# Altium integrated library Linear Technology Power Management Power-Over-Ethernet (PoE) Interface Controllers.IntLib: 174 symbols (part 8 of 16)
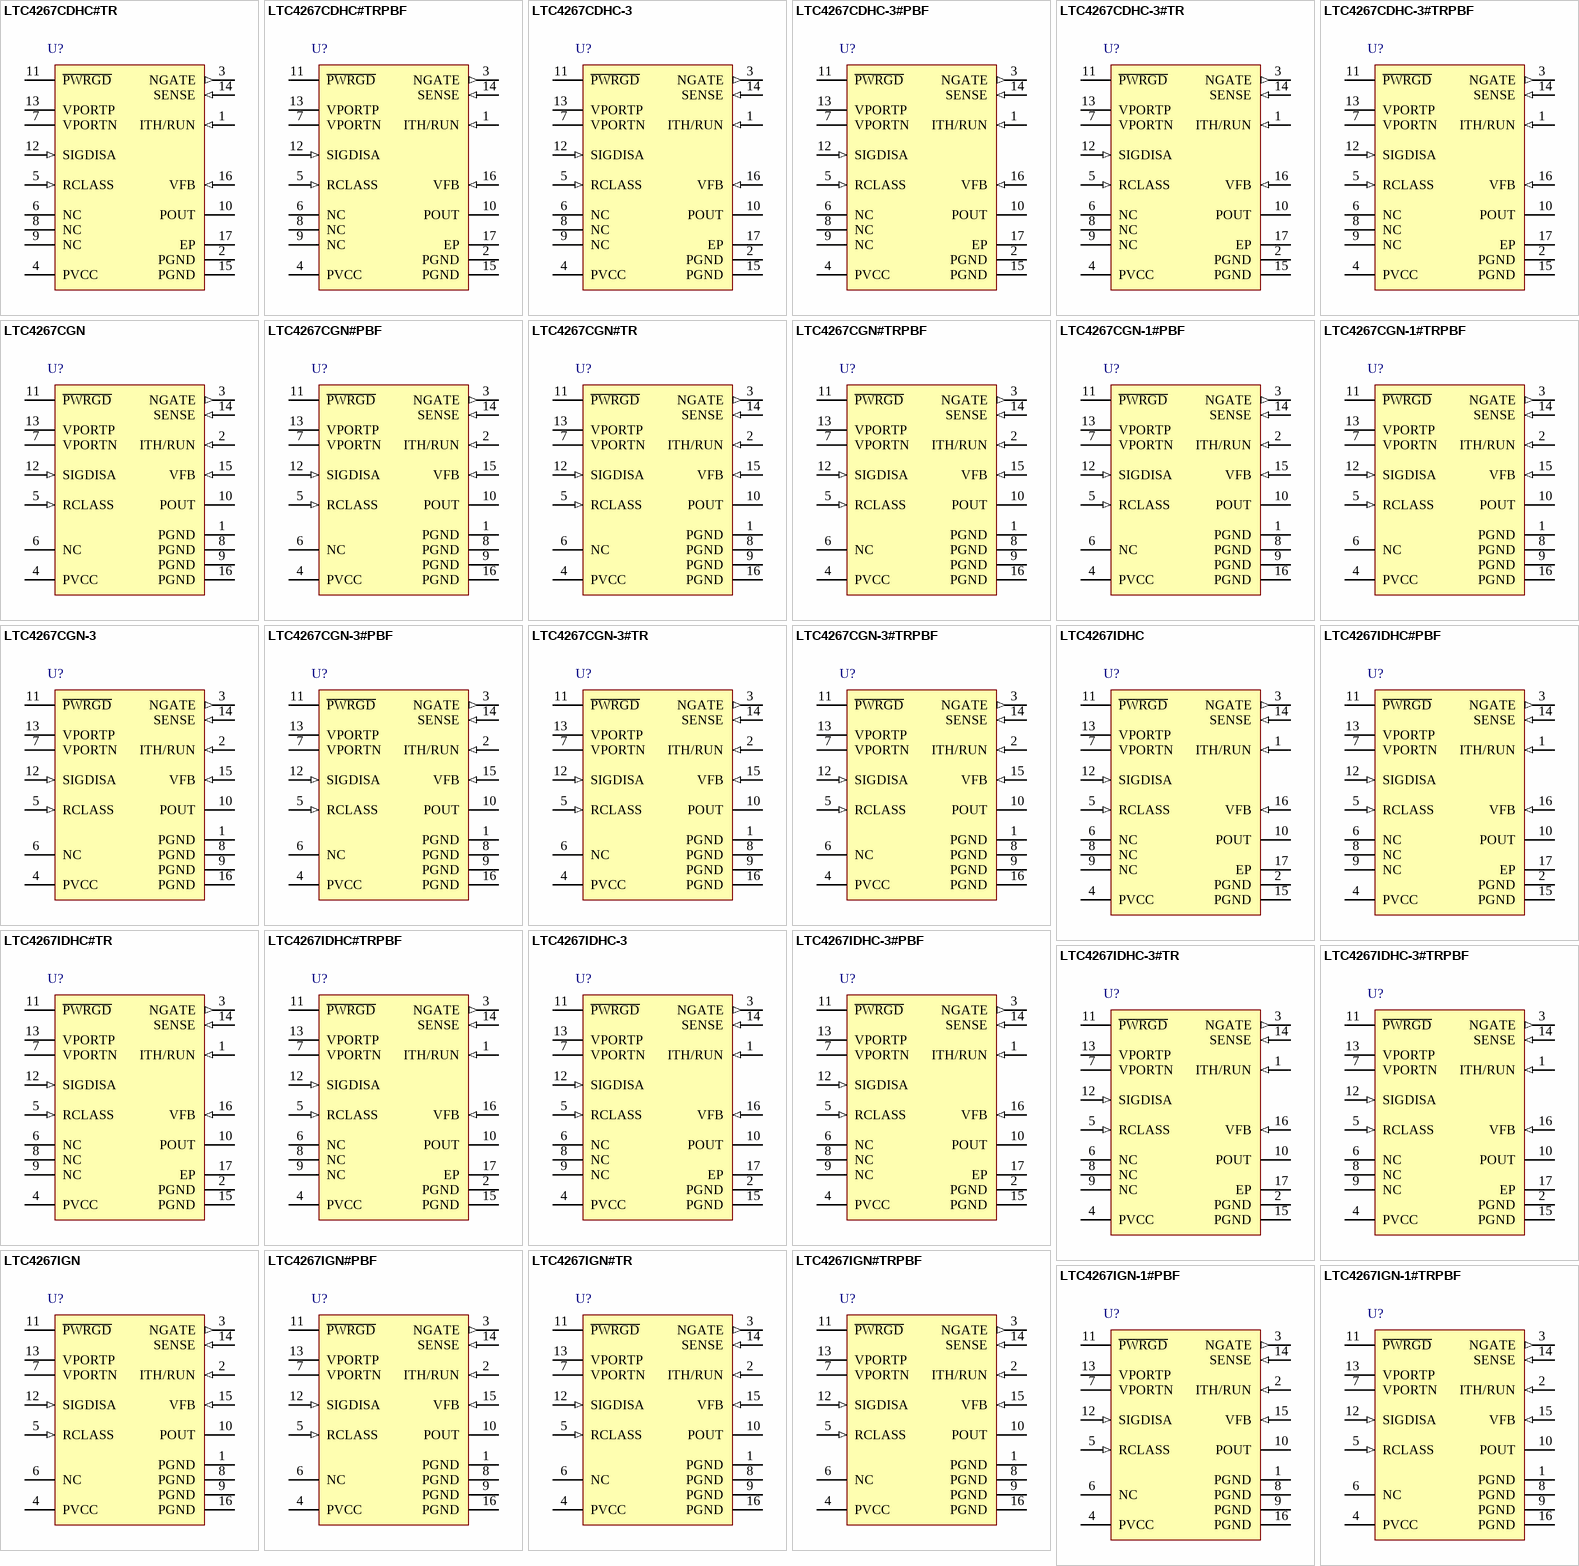
[diagram p15: symbols LTC4267CDHC#TR to LTC4267IGN-1#TRPBF]

## LTC4267CDHC-3
designator U?
Power Over Ethernet IEEE 802.3af PD Interface with Integrated Switching Regulator, 16-pin SON (DHC-16), 0 to 70 degC; Manufacturer: Linear Technology; PartNumber: LTC4267CDHC-3; Channels(#): 1; Extended Temp: C, I; I2C Interface: yes; Max Power(W): 13; DatasheetVersion: Rev. A; PackageVersion: Jun-10; PackageReference: DHC-16; PackageDescription: 16-Pin Plastic DFN, Body 5 x 3 mm, Pitch 0.5 mm; PoE Type: 1; PSE/PD: PD; RoHS: FALSE; Mounting Technology: Surface Mount; Code_JEDEC: MO-229; ComponentLink1Description: Manufacturer URL; ComponentLink1URL: http://www.linear.com/; ComponentLink2Description: Datasheet; ComponentLink2URL: http://cds.linear.com/docs/en/datasheet/42673fa.pdf; ComponentLink3Description: Package Specification; ComponentLink3URL: http://cds.linear.com/docs/en/packaging/DFN_16_05-08-1706.pdf
footprint LT-DHC-16_V (SON, 16-Leads, Body 5x3mm, Pitch 0.5mm, Thermal Pad 4.4X1.65mm)
pins: 1 ITH/RUN (in) "Current Threshold/Run Input. This  pin performs two functions. It serves as the switching  regulator error amplifier compensation point as well as  the run/shutdown control input. Nominal voltage range is  0.7V to 1.9V. (See Datasheet)", 2 PGND (power) "Switching Regulator  Negative Supply. This pin is the negative supply rail for the  switching regulator controller and must be tied to POUT.", 3 NGATE (out) "Gate Driver Output. This pin drives the  regulator's external N-Channel MOSFET and swings from PGND to PVCC.", 4 PVCC (power) "Switching Regulator Positive Supply. This  pin is the positive supply rail for the switching regulator  and must be closely decoupled to PGND.", 5 RCLASS (in) "Class Select Input. Used to set the current  value the PD maintains during classification. Connect a  resistor between RCLASS and VPORTN (see Table 2).", 6 NC "No Internal Connection.", 7 VPORTN (power) "Negative Power Input. Tie to the -48V input port through the input diodes.", 8 NC "No Internal Connection.", 9 NC "No Internal Connection.", 10 POUT (hiz) "Power Output. Supplies -48V to the switching regulator PGND pin and any additional PD loads through an internal power MOSFET that limits input current. POUT is high impedance until the voltage reaches the turn-on UVLO (See Datasheet)", 11 ~{PWRGD} (hiz) "Power Good Output, Open-Drain.  Indicates that the PD MOSFET is on and the switching  regulator can start operation. Low impedance indicates  power is good. P\W\R\G\D\ is high impedance during detection, classification and (See Datasheet)", 12 SIGDISA (in) "Signature Disable Input. SIGDISA allows the PD to present an invalid signature resistance and all functions of the LTC4267-3. If unused, tie SIGDISA to  VPORTN. remain inactive. Connecting SIGDISA to VPORTP lowers  the (See Datasheet)", 13 VPORTP (power) "Positive Power Input. Tie to the input port power return through the input diodes", 14 SENSE (in) "Current Sense. This pin performs two  functions. It monitors the regulator switch current by reading the voltage across an external sense resistor. It also  injects a current ramp that develops a slope compensation  voltage (See Datasheet)", 15 PGND (power) "Switching Regulator  Negative Supply. This pin is the negative supply rail for the  switching regulator controller and must be tied to POUT.", 16 VFB (in) "Feedback Input. Receives the feedback  voltage from the external resistor divider across the output", 17 EP (power) "Ground. The Exposed Pad  must be soldered to an electrically isolated PCB heat sink."

## LTC4267CDHC-3#PBF
designator U?
Power Over Ethernet IEEE 802.3af PD Interface with Integrated Switching Regulator, 16-pin SON (DHC-16), 0 to 70 degC, Pb-Free; Manufacturer: Linear Technology; PartNumber: LTC4267CDHC-3#PBF; Channels(#): 1; Extended Temp: C, I; I2C Interface: yes; Max Power(W): 13; DatasheetVersion: Rev. A; PackageVersion: Jun-10; PackageReference: DHC-16; PackageDescription: 16-Pin Plastic DFN, Body 5 x 3 mm, Pitch 0.5 mm; Supplier 1: Digi-Key; Supplier Part Number 1: LTC4267CDHC-3#PBF-ND; Supplier 2: Farnell; Supplier Part Number 2: 1432772; Supplier 3: Newark; Supplier Part Number 3: 56M9189; PoE Type: 1; PSE/PD: PD; RoHS: TRUE; Mounting Technology: Surface Mount; Code_JEDEC: MO-229; ComponentLink1Description: Manufacturer URL; ComponentLink1URL: http://www.linear.com/; ComponentLink2Description: Datasheet; ComponentLink2URL: http://cds.linear.com/docs/en/datasheet/42673fa.pdf; ComponentLink3Description: Package Specification; ComponentLink3URL: http://cds.linear.com/docs/en/packaging/DFN_16_05-08-1706.pdf
footprint LT-DHC-16_V (SON, 16-Leads, Body 5x3mm, Pitch 0.5mm, Thermal Pad 4.4X1.65mm)
pins: 1 ITH/RUN (in) "Current Threshold/Run Input. This  pin performs two functions. It serves as the switching  regulator error amplifier compensation point as well as  the run/shutdown control input. Nominal voltage range is  0.7V to 1.9V. (See Datasheet)", 2 PGND (power) "Switching Regulator  Negative Supply. This pin is the negative supply rail for the  switching regulator controller and must be tied to POUT.", 3 NGATE (out) "Gate Driver Output. This pin drives the  regulator's external N-Channel MOSFET and swings from PGND to PVCC.", 4 PVCC (power) "Switching Regulator Positive Supply. This  pin is the positive supply rail for the switching regulator  and must be closely decoupled to PGND.", 5 RCLASS (in) "Class Select Input. Used to set the current  value the PD maintains during classification. Connect a  resistor between RCLASS and VPORTN (see Table 2).", 6 NC "No Internal Connection.", 7 VPORTN (power) "Negative Power Input. Tie to the -48V input port through the input diodes.", 8 NC "No Internal Connection.", 9 NC "No Internal Connection.", 10 POUT (hiz) "Power Output. Supplies -48V to the switching regulator PGND pin and any additional PD loads through an internal power MOSFET that limits input current. POUT is high impedance until the voltage reaches the turn-on UVLO (See Datasheet)", 11 ~{PWRGD} (hiz) "Power Good Output, Open-Drain.  Indicates that the PD MOSFET is on and the switching  regulator can start operation. Low impedance indicates  power is good. P\W\R\G\D\ is high impedance during detection, classification and (See Datasheet)", 12 SIGDISA (in) "Signature Disable Input. SIGDISA allows the PD to present an invalid signature resistance and all functions of the LTC4267-3. If unused, tie SIGDISA to  VPORTN. remain inactive. Connecting SIGDISA to VPORTP lowers  the (See Datasheet)", 13 VPORTP (power) "Positive Power Input. Tie to the input port power return through the input diodes", 14 SENSE (in) "Current Sense. This pin performs two  functions. It monitors the regulator switch current by reading the voltage across an external sense resistor. It also  injects a current ramp that develops a slope compensation  voltage (See Datasheet)", 15 PGND (power) "Switching Regulator  Negative Supply. This pin is the negative supply rail for the  switching regulator controller and must be tied to POUT.", 16 VFB (in) "Feedback Input. Receives the feedback  voltage from the external resistor divider across the output", 17 EP (power) "Ground. The Exposed Pad  must be soldered to an electrically isolated PCB heat sink."

## LTC4267CDHC-3#TR
designator U?
Power Over Ethernet IEEE 802.3af PD Interface with Integrated Switching Regulator, 16-pin SON (DHC-16), 0 to 70 degC, Tape and Reel; Manufacturer: Linear Technology; PartNumber: LTC4267CDHC-3#TR; Channels(#): 1; Extended Temp: C, I; I2C Interface: yes; Max Power(W): 13; DatasheetVersion: Rev. A; PackageVersion: Jun-10; PackageReference: DHC-16; PackageDescription: 16-Pin Plastic DFN, Body 5 x 3 mm, Pitch 0.5 mm; Packing: Tape and Reel; PoE Type: 1; PSE/PD: PD; RoHS: FALSE; Mounting Technology: Surface Mount; Code_JEDEC: MO-229; ComponentLink1Description: Manufacturer URL; ComponentLink1URL: http://www.linear.com/; ComponentLink2Description: Datasheet; ComponentLink2URL: http://cds.linear.com/docs/en/datasheet/42673fa.pdf; ComponentLink3Description: Package Specification; ComponentLink3URL: http://cds.linear.com/docs/en/packaging/DFN_16_05-08-1706.pdf
footprint LT-DHC-16_V (SON, 16-Leads, Body 5x3mm, Pitch 0.5mm, Thermal Pad 4.4X1.65mm)
pins: 1 ITH/RUN (in) "Current Threshold/Run Input. This  pin performs two functions. It serves as the switching  regulator error amplifier compensation point as well as  the run/shutdown control input. Nominal voltage range is  0.7V to 1.9V. (See Datasheet)", 2 PGND (power) "Switching Regulator  Negative Supply. This pin is the negative supply rail for the  switching regulator controller and must be tied to POUT.", 3 NGATE (out) "Gate Driver Output. This pin drives the  regulator's external N-Channel MOSFET and swings from PGND to PVCC.", 4 PVCC (power) "Switching Regulator Positive Supply. This  pin is the positive supply rail for the switching regulator  and must be closely decoupled to PGND.", 5 RCLASS (in) "Class Select Input. Used to set the current  value the PD maintains during classification. Connect a  resistor between RCLASS and VPORTN (see Table 2).", 6 NC "No Internal Connection.", 7 VPORTN (power) "Negative Power Input. Tie to the -48V input port through the input diodes.", 8 NC "No Internal Connection.", 9 NC "No Internal Connection.", 10 POUT (hiz) "Power Output. Supplies -48V to the switching regulator PGND pin and any additional PD loads through an internal power MOSFET that limits input current. POUT is high impedance until the voltage reaches the turn-on UVLO (See Datasheet)", 11 ~{PWRGD} (hiz) "Power Good Output, Open-Drain.  Indicates that the PD MOSFET is on and the switching  regulator can start operation. Low impedance indicates  power is good. P\W\R\G\D\ is high impedance during detection, classification and (See Datasheet)", 12 SIGDISA (in) "Signature Disable Input. SIGDISA allows the PD to present an invalid signature resistance and all functions of the LTC4267-3. If unused, tie SIGDISA to  VPORTN. remain inactive. Connecting SIGDISA to VPORTP lowers  the (See Datasheet)", 13 VPORTP (power) "Positive Power Input. Tie to the input port power return through the input diodes", 14 SENSE (in) "Current Sense. This pin performs two  functions. It monitors the regulator switch current by reading the voltage across an external sense resistor. It also  injects a current ramp that develops a slope compensation  voltage (See Datasheet)", 15 PGND (power) "Switching Regulator  Negative Supply. This pin is the negative supply rail for the  switching regulator controller and must be tied to POUT.", 16 VFB (in) "Feedback Input. Receives the feedback  voltage from the external resistor divider across the output", 17 EP (power) "Ground. The Exposed Pad  must be soldered to an electrically isolated PCB heat sink."

## LTC4267CDHC-3#TRPBF
designator U?
Power Over Ethernet IEEE 802.3af PD Interface with Integrated Switching Regulator, 16-pin SON (DHC-16), 0 to 70 degC, Pb-Free, Tape and Reel; Manufacturer: Linear Technology; PartNumber: LTC4267CDHC-3#TRPBF; Channels(#): 1; Extended Temp: C, I; I2C Interface: yes; Max Power(W): 13; DatasheetVersion: Rev. A; PackageVersion: Jun-10; PackageReference: DHC-16; PackageDescription: 16-Pin Plastic DFN, Body 5 x 3 mm, Pitch 0.5 mm; Supplier 1: Digi-Key; Supplier Part Number 1: LTC4267CDHC-3#TRPBF-ND; Packing: Tape and Reel; PoE Type: 1; PSE/PD: PD; RoHS: TRUE; Mounting Technology: Surface Mount; Code_JEDEC: MO-229; ComponentLink1Description: Manufacturer URL; ComponentLink1URL: http://www.linear.com/; ComponentLink2Description: Datasheet; ComponentLink2URL: http://cds.linear.com/docs/en/datasheet/42673fa.pdf; ComponentLink3Description: Package Specification; ComponentLink3URL: http://cds.linear.com/docs/en/packaging/DFN_16_05-08-1706.pdf
footprint LT-DHC-16_V (SON, 16-Leads, Body 5x3mm, Pitch 0.5mm, Thermal Pad 4.4X1.65mm)
pins: 1 ITH/RUN (in) "Current Threshold/Run Input. This  pin performs two functions. It serves as the switching  regulator error amplifier compensation point as well as  the run/shutdown control input. Nominal voltage range is  0.7V to 1.9V. (See Datasheet)", 2 PGND (power) "Switching Regulator  Negative Supply. This pin is the negative supply rail for the  switching regulator controller and must be tied to POUT.", 3 NGATE (out) "Gate Driver Output. This pin drives the  regulator's external N-Channel MOSFET and swings from PGND to PVCC.", 4 PVCC (power) "Switching Regulator Positive Supply. This  pin is the positive supply rail for the switching regulator  and must be closely decoupled to PGND.", 5 RCLASS (in) "Class Select Input. Used to set the current  value the PD maintains during classification. Connect a  resistor between RCLASS and VPORTN (see Table 2).", 6 NC "No Internal Connection.", 7 VPORTN (power) "Negative Power Input. Tie to the -48V input port through the input diodes.", 8 NC "No Internal Connection.", 9 NC "No Internal Connection.", 10 POUT (hiz) "Power Output. Supplies -48V to the switching regulator PGND pin and any additional PD loads through an internal power MOSFET that limits input current. POUT is high impedance until the voltage reaches the turn-on UVLO (See Datasheet)", 11 ~{PWRGD} (hiz) "Power Good Output, Open-Drain.  Indicates that the PD MOSFET is on and the switching  regulator can start operation. Low impedance indicates  power is good. P\W\R\G\D\ is high impedance during detection, classification and (See Datasheet)", 12 SIGDISA (in) "Signature Disable Input. SIGDISA allows the PD to present an invalid signature resistance and all functions of the LTC4267-3. If unused, tie SIGDISA to  VPORTN. remain inactive. Connecting SIGDISA to VPORTP lowers  the (See Datasheet)", 13 VPORTP (power) "Positive Power Input. Tie to the input port power return through the input diodes", 14 SENSE (in) "Current Sense. This pin performs two  functions. It monitors the regulator switch current by reading the voltage across an external sense resistor. It also  injects a current ramp that develops a slope compensation  voltage (See Datasheet)", 15 PGND (power) "Switching Regulator  Negative Supply. This pin is the negative supply rail for the  switching regulator controller and must be tied to POUT.", 16 VFB (in) "Feedback Input. Receives the feedback  voltage from the external resistor divider across the output", 17 EP (power) "Ground. The Exposed Pad  must be soldered to an electrically isolated PCB heat sink."

## LTC4267CGN
designator U?
Power Over Ethernet IEEE 802.3af PD Interface with Integrated Switching Regulator, 16-pin SOP (GN-16), 0 to 70 degC; Manufacturer: Linear Technology; PartNumber: LTC4267CGN; Channels(#): 1; Extended Temp: C, I; I2C Interface: yes; Max Power(W): 13; DatasheetVersion: Rev. C; PackageVersion: Rev. B, 03/2012; PackageReference: GN-16; PackageDescription: 16-Pin Plastic SSOP, Body 4.9 x 3.9 mm, Pitch 0.635 mm; PoE Type: 1; PSE/PD: PD; RoHS: FALSE; Mounting Technology: Surface Mount; ComponentLink1Description: Manufacturer URL; ComponentLink1URL: http://www.linear.com/; ComponentLink2Description: Datasheet; ComponentLink2URL: http://cds.linear.com/docs/en/datasheet/4267fc.pdf; ComponentLink3Description: Package Specification; ComponentLink3URL: http://cds.linear.com/docs/en/packaging/05081641_B_GN16.pdf
footprint LT-GN-16_N (SOP, 16-Leads, Body 5x4mm, Pitch 0.635mm, IPC Medium Density)
footprint LT-GN-16_L (SOP, 16-Leads, Body 5x4mm, Pitch 0.635mm, IPC High Density)
footprint LT-GN-16_M (SOP, 16-Leads, Body 5x4mm, Pitch 0.635mm, IPC Low Density)
pins: 1 PGND (power) "Switching Regulator  Negative Supply. This pin is the negative supply rail for the  switching regulator controller and must be tied to POUT.", 2 ITH/RUN (in) "Current Threshold/Run Input. This  pin performs two functions. It serves as the switching  regulator error amplifier compensation point as well as  the run/shutdown control input. Nominal voltage range is  0.7V to 1.9V. (See Datasheet)", 3 NGATE (out) "Gate Driver Output. This pin drives the  regulator’s external N-Channel MOSFET and swings from  PGND to PVCC.", 4 PVCC (power) "Switching Regulator Positive Supply. This  pin is the positive supply rail for the switching regulator  and must be closely decoupled to PGND.", 5 RCLASS (in) "Class Select Input. Used to set the current  value the PD maintains during classification. Connect a  resistor between RCLASS and VPORTN (see Table 2).", 6 NC "No Internal Connection.", 7 VPORTN (power) "Negative Power Input. Tie to the -48V input port through the input diodes.", 8 PGND (power) "Switching Regulator  Negative Supply. This pin is the negative supply rail for the  switching regulator controller and must be tied to POUT.", 9 PGND (power) "Switching Regulator  Negative Supply. This pin is the negative supply rail for the  switching regulator controller and must be tied to POUT.", 10 POUT (hiz) "Power Output. Supplies -48V to the switching regulator PGND pin and any additional PD loads through an internal power MOSFET that limits input current. POUT is high impedance until the voltage reaches the turn-on UVLO (See Datasheet)", 11 ~{PWRGD} (hiz) "Power Good Output, Open-Drain.  Indicates that the PD MOSFET is on and the switching  regulator can start operation. Low impedance indicates  power is good. P\W\R\G\D\ is high impedance during detection, classification and (See Datasheet)", 12 SIGDISA (in) "Signature Disable Input. SIGDISA allows the PD to present an invalid signature resistance and all functions of the LTC4267-3. If unused, tie SIGDISA to  VPORTN. remain inactive. Connecting SIGDISA to VPORTP lowers  the (See Datasheet)", 13 VPORTP (power) "Positive Power Input. Tie to the input  port power return through the input diodes", 14 SENSE (in) "Current Sense. This pin performs two  functions. It monitors the regulator switch current by reading the voltage across an external sense resistor. It also  injects a current ramp that develops a slope compensation  voltage (See Datasheet)", 15 VFB (in) "Feedback Input. Receives the feedback  voltage from the external resistor divider across the output", 16 PGND (power) "Switching Regulator  Negative Supply. This pin is the negative supply rail for the  switching regulator controller and must be tied to POUT."

## LTC4267CGN#PBF
designator U?
Power Over Ethernet IEEE 802.3af PD Interface with Integrated Switching Regulator, 16-pin SOP (GN-16), 0 to 70 degC, Pb-Free; Manufacturer: Linear Technology; PartNumber: LTC4267CGN#PBF; Channels(#): 1; Extended Temp: C, I; I2C Interface: yes; Max Power(W): 13; DatasheetVersion: Rev. C; PackageVersion: Rev. B, 03/2012; PackageReference: GN-16; PackageDescription: 16-Pin Plastic SSOP, Body 4.9 x 3.9 mm, Pitch 0.635 mm; Supplier 1: Digi-Key; Supplier Part Number 1: LTC4267CGN#PBF-ND; Supplier 2: Newark; Supplier Part Number 2: 56M9201; PoE Type: 1; PSE/PD: PD; RoHS: TRUE; Mounting Technology: Surface Mount; ComponentLink1Description: Manufacturer URL; ComponentLink1URL: http://www.linear.com/; ComponentLink2Description: Datasheet; ComponentLink2URL: http://cds.linear.com/docs/en/datasheet/4267fc.pdf; ComponentLink3Description: Package Specification; ComponentLink3URL: http://cds.linear.com/docs/en/packaging/05081641_B_GN16.pdf
footprint LT-GN-16_N (SOP, 16-Leads, Body 5x4mm, Pitch 0.635mm, IPC Medium Density)
footprint LT-GN-16_L (SOP, 16-Leads, Body 5x4mm, Pitch 0.635mm, IPC High Density)
footprint LT-GN-16_M (SOP, 16-Leads, Body 5x4mm, Pitch 0.635mm, IPC Low Density)
pins: 1 PGND (power) "Switching Regulator  Negative Supply. This pin is the negative supply rail for the  switching regulator controller and must be tied to POUT.", 2 ITH/RUN (in) "Current Threshold/Run Input. This  pin performs two functions. It serves as the switching  regulator error amplifier compensation point as well as  the run/shutdown control input. Nominal voltage range is  0.7V to 1.9V. (See Datasheet)", 3 NGATE (out) "Gate Driver Output. This pin drives the  regulator’s external N-Channel MOSFET and swings from  PGND to PVCC.", 4 PVCC (power) "Switching Regulator Positive Supply. This  pin is the positive supply rail for the switching regulator  and must be closely decoupled to PGND.", 5 RCLASS (in) "Class Select Input. Used to set the current  value the PD maintains during classification. Connect a  resistor between RCLASS and VPORTN (see Table 2).", 6 NC "No Internal Connection.", 7 VPORTN (power) "Negative Power Input. Tie to the -48V input port through the input diodes.", 8 PGND (power) "Switching Regulator  Negative Supply. This pin is the negative supply rail for the  switching regulator controller and must be tied to POUT.", 9 PGND (power) "Switching Regulator  Negative Supply. This pin is the negative supply rail for the  switching regulator controller and must be tied to POUT.", 10 POUT (hiz) "Power Output. Supplies -48V to the switching regulator PGND pin and any additional PD loads through an internal power MOSFET that limits input current. POUT is high impedance until the voltage reaches the turn-on UVLO (See Datasheet)", 11 ~{PWRGD} (hiz) "Power Good Output, Open-Drain.  Indicates that the PD MOSFET is on and the switching  regulator can start operation. Low impedance indicates  power is good. P\W\R\G\D\ is high impedance during detection, classification and (See Datasheet)", 12 SIGDISA (in) "Signature Disable Input. SIGDISA allows the PD to present an invalid signature resistance and all functions of the LTC4267-3. If unused, tie SIGDISA to  VPORTN. remain inactive. Connecting SIGDISA to VPORTP lowers  the (See Datasheet)", 13 VPORTP (power) "Positive Power Input. Tie to the input  port power return through the input diodes", 14 SENSE (in) "Current Sense. This pin performs two  functions. It monitors the regulator switch current by reading the voltage across an external sense resistor. It also  injects a current ramp that develops a slope compensation  voltage (See Datasheet)", 15 VFB (in) "Feedback Input. Receives the feedback  voltage from the external resistor divider across the output", 16 PGND (power) "Switching Regulator  Negative Supply. This pin is the negative supply rail for the  switching regulator controller and must be tied to POUT."

## LTC4267CGN#TR
designator U?
Power Over Ethernet IEEE 802.3af PD Interface with Integrated Switching Regulator, 16-pin SOP (GN-16), 0 to 70 degC, Tape and Reel; Manufacturer: Linear Technology; PartNumber: LTC4267CGN#TR; Channels(#): 1; Extended Temp: C, I; I2C Interface: yes; Max Power(W): 13; DatasheetVersion: Rev. C; PackageVersion: Rev. B, 03/2012; PackageReference: GN-16; PackageDescription: 16-Pin Plastic SSOP, Body 4.9 x 3.9 mm, Pitch 0.635 mm; Packing: Tape and Reel; PoE Type: 1; PSE/PD: PD; RoHS: FALSE; Mounting Technology: Surface Mount; ComponentLink1Description: Manufacturer URL; ComponentLink1URL: http://www.linear.com/; ComponentLink2Description: Datasheet; ComponentLink2URL: http://cds.linear.com/docs/en/datasheet/4267fc.pdf; ComponentLink3Description: Package Specification; ComponentLink3URL: http://cds.linear.com/docs/en/packaging/05081641_B_GN16.pdf
footprint LT-GN-16_N (SOP, 16-Leads, Body 5x4mm, Pitch 0.635mm, IPC Medium Density)
footprint LT-GN-16_L (SOP, 16-Leads, Body 5x4mm, Pitch 0.635mm, IPC High Density)
footprint LT-GN-16_M (SOP, 16-Leads, Body 5x4mm, Pitch 0.635mm, IPC Low Density)
pins: 1 PGND (power) "Switching Regulator  Negative Supply. This pin is the negative supply rail for the  switching regulator controller and must be tied to POUT.", 2 ITH/RUN (in) "Current Threshold/Run Input. This  pin performs two functions. It serves as the switching  regulator error amplifier compensation point as well as  the run/shutdown control input. Nominal voltage range is  0.7V to 1.9V. (See Datasheet)", 3 NGATE (out) "Gate Driver Output. This pin drives the  regulator’s external N-Channel MOSFET and swings from  PGND to PVCC.", 4 PVCC (power) "Switching Regulator Positive Supply. This  pin is the positive supply rail for the switching regulator  and must be closely decoupled to PGND.", 5 RCLASS (in) "Class Select Input. Used to set the current  value the PD maintains during classification. Connect a  resistor between RCLASS and VPORTN (see Table 2).", 6 NC "No Internal Connection.", 7 VPORTN (power) "Negative Power Input. Tie to the -48V input port through the input diodes.", 8 PGND (power) "Switching Regulator  Negative Supply. This pin is the negative supply rail for the  switching regulator controller and must be tied to POUT.", 9 PGND (power) "Switching Regulator  Negative Supply. This pin is the negative supply rail for the  switching regulator controller and must be tied to POUT.", 10 POUT (hiz) "Power Output. Supplies -48V to the switching regulator PGND pin and any additional PD loads through an internal power MOSFET that limits input current. POUT is high impedance until the voltage reaches the turn-on UVLO (See Datasheet)", 11 ~{PWRGD} (hiz) "Power Good Output, Open-Drain.  Indicates that the PD MOSFET is on and the switching  regulator can start operation. Low impedance indicates  power is good. P\W\R\G\D\ is high impedance during detection, classification and (See Datasheet)", 12 SIGDISA (in) "Signature Disable Input. SIGDISA allows the PD to present an invalid signature resistance and all functions of the LTC4267-3. If unused, tie SIGDISA to  VPORTN. remain inactive. Connecting SIGDISA to VPORTP lowers  the (See Datasheet)", 13 VPORTP (power) "Positive Power Input. Tie to the input  port power return through the input diodes", 14 SENSE (in) "Current Sense. This pin performs two  functions. It monitors the regulator switch current by reading the voltage across an external sense resistor. It also  injects a current ramp that develops a slope compensation  voltage (See Datasheet)", 15 VFB (in) "Feedback Input. Receives the feedback  voltage from the external resistor divider across the output", 16 PGND (power) "Switching Regulator  Negative Supply. This pin is the negative supply rail for the  switching regulator controller and must be tied to POUT."

## LTC4267CGN#TRPBF
designator U?
Power Over Ethernet IEEE 802.3af PD Interface with Integrated Switching Regulator, 16-pin SOP (GN-16), 0 to 70 degC, Pb-Free, Tape and Reel; Manufacturer: Linear Technology; PartNumber: LTC4267CGN#TRPBF; Channels(#): 1; Extended Temp: C, I; I2C Interface: yes; Max Power(W): 13; DatasheetVersion: Rev. C; PackageVersion: Rev. B, 03/2012; PackageReference: GN-16; PackageDescription: 16-Pin Plastic SSOP, Body 4.9 x 3.9 mm, Pitch 0.635 mm; Supplier 1: Digi-Key; Supplier Part Number 1: LTC4267CGN#TRPBF-ND; Packing: Tape and Reel; PoE Type: 1; PSE/PD: PD; RoHS: TRUE; Mounting Technology: Surface Mount; ComponentLink1Description: Manufacturer URL; ComponentLink1URL: http://www.linear.com/; ComponentLink2Description: Datasheet; ComponentLink2URL: http://cds.linear.com/docs/en/datasheet/4267fc.pdf; ComponentLink3Description: Package Specification; ComponentLink3URL: http://cds.linear.com/docs/en/packaging/05081641_B_GN16.pdf
footprint LT-GN-16_N (SOP, 16-Leads, Body 5x4mm, Pitch 0.635mm, IPC Medium Density)
footprint LT-GN-16_L (SOP, 16-Leads, Body 5x4mm, Pitch 0.635mm, IPC High Density)
footprint LT-GN-16_M (SOP, 16-Leads, Body 5x4mm, Pitch 0.635mm, IPC Low Density)
pins: 1 PGND (power) "Switching Regulator  Negative Supply. This pin is the negative supply rail for the  switching regulator controller and must be tied to POUT.", 2 ITH/RUN (in) "Current Threshold/Run Input. This  pin performs two functions. It serves as the switching  regulator error amplifier compensation point as well as  the run/shutdown control input. Nominal voltage range is  0.7V to 1.9V. (See Datasheet)", 3 NGATE (out) "Gate Driver Output. This pin drives the  regulator’s external N-Channel MOSFET and swings from  PGND to PVCC.", 4 PVCC (power) "Switching Regulator Positive Supply. This  pin is the positive supply rail for the switching regulator  and must be closely decoupled to PGND.", 5 RCLASS (in) "Class Select Input. Used to set the current  value the PD maintains during classification. Connect a  resistor between RCLASS and VPORTN (see Table 2).", 6 NC "No Internal Connection.", 7 VPORTN (power) "Negative Power Input. Tie to the -48V input port through the input diodes.", 8 PGND (power) "Switching Regulator  Negative Supply. This pin is the negative supply rail for the  switching regulator controller and must be tied to POUT.", 9 PGND (power) "Switching Regulator  Negative Supply. This pin is the negative supply rail for the  switching regulator controller and must be tied to POUT.", 10 POUT (hiz) "Power Output. Supplies -48V to the switching regulator PGND pin and any additional PD loads through an internal power MOSFET that limits input current. POUT is high impedance until the voltage reaches the turn-on UVLO (See Datasheet)", 11 ~{PWRGD} (hiz) "Power Good Output, Open-Drain.  Indicates that the PD MOSFET is on and the switching  regulator can start operation. Low impedance indicates  power is good. P\W\R\G\D\ is high impedance during detection, classification and (See Datasheet)", 12 SIGDISA (in) "Signature Disable Input. SIGDISA allows the PD to present an invalid signature resistance and all functions of the LTC4267-3. If unused, tie SIGDISA to  VPORTN. remain inactive. Connecting SIGDISA to VPORTP lowers  the (See Datasheet)", 13 VPORTP (power) "Positive Power Input. Tie to the input  port power return through the input diodes", 14 SENSE (in) "Current Sense. This pin performs two  functions. It monitors the regulator switch current by reading the voltage across an external sense resistor. It also  injects a current ramp that develops a slope compensation  voltage (See Datasheet)", 15 VFB (in) "Feedback Input. Receives the feedback  voltage from the external resistor divider across the output", 16 PGND (power) "Switching Regulator  Negative Supply. This pin is the negative supply rail for the  switching regulator controller and must be tied to POUT."

## LTC4267CGN-1#PBF
designator U?
Power Over Ethernet IEEE 802.3af PD Interface with Integrated Switching Regulator, 16-pin SOP (GN-16), 0 to 70 degC, Pb-Free; Manufacturer: Linear Technology; PartNumber: LTC4267CGN-1#PBF; Channels(#): 1; Extended Temp: C, I; I2C Interface: yes; Max Power(W): 13; DatasheetVersion: Rev. A; PackageVersion: Rev. B, 03/2012; PackageReference: GN-16; PackageDescription: 16-Pin Plastic SSOP, Body 4.9 x 3.9 mm, Pitch 0.635 mm; Supplier 1: Digi-Key; Supplier Part Number 1: LTC4267CGN-1#PBF-ND; PoE Type: 1; PSE/PD: PD; RoHS: TRUE; Mounting Technology: Surface Mount; ComponentLink1Description: Manufacturer URL; ComponentLink1URL: http://www.linear.com/; ComponentLink2Description: Datasheet; ComponentLink2URL: http://cds.linear.com/docs/en/datasheet/42671fa.pdf; ComponentLink3Description: Package Specification; ComponentLink3URL: http://cds.linear.com/docs/en/packaging/05081641_B_GN16.pdf
footprint LT-GN-16_N (SOP, 16-Leads, Body 5x4mm, Pitch 0.635mm, IPC Medium Density)
footprint LT-GN-16_L (SOP, 16-Leads, Body 5x4mm, Pitch 0.635mm, IPC High Density)
footprint LT-GN-16_M (SOP, 16-Leads, Body 5x4mm, Pitch 0.635mm, IPC Low Density)
pins: 1 PGND (power) "Switching Regulator  Negative Supply. This pin is the negative supply rail for the  switching regulator controller and must be tied to POUT.", 2 ITH/RUN (in) "Current Threshold/Run Input. This  pin performs two functions. It serves as the switching  regulator error amplifier compensation point as well as  the run/shutdown control input. Nominal voltage range is  0.7V to 1.9V. (See Datasheet)", 3 NGATE (out) "Gate Driver Output. This pin drives the  regulator’s external N-Channel MOSFET and swings from  PGND to PVCC.", 4 PVCC (power) "Switching Regulator Positive Supply. This  pin is the positive supply rail for the switching regulator  and must be closely decoupled to PGND.", 5 RCLASS (in) "Class Select Input. Used to set the current  value the PD maintains during classification. Connect a  resistor between RCLASS and VPORTN (see Table 2).", 6 NC "No Internal Connection.", 7 VPORTN (power) "Negative Power Input. Tie to the -48V input port through the input diodes.", 8 PGND (power) "Switching Regulator  Negative Supply. This pin is the negative supply rail for the  switching regulator controller and must be tied to POUT.", 9 PGND (power) "Switching Regulator  Negative Supply. This pin is the negative supply rail for the  switching regulator controller and must be tied to POUT.", 10 POUT (hiz) "Power Output. Supplies -48V to the switching regulator PGND pin and any additional PD loads through an internal power MOSFET that limits input current. POUT is high impedance until the voltage reaches the turn-on UVLO (See Datasheet)", 11 ~{PWRGD} (hiz) "Power Good Output, Open-Drain.  Indicates that the PD MOSFET is on and the switching  regulator can start operation. Low impedance indicates  power is good. P\W\R\G\D\ is high impedance during detection, classification and (See Datasheet)", 12 SIGDISA (in) "Signature Disable Input. SIGDISA allows the PD to present an invalid signature resistance and all functions of the LTC4267-3. If unused, tie SIGDISA to  VPORTN. remain inactive. Connecting SIGDISA to VPORTP lowers  the (See Datasheet)", 13 VPORTP (power) "Positive Power Input. Tie to the input  port power return through the input diodes", 14 SENSE (in) "Current Sense. This pin performs two  functions. It monitors the regulator switch current by reading the voltage across an external sense resistor. It also  injects a current ramp that develops a slope compensation  voltage (See Datasheet)", 15 VFB (in) "Feedback Input. Receives the feedback  voltage from the external resistor divider across the output", 16 PGND (power) "Switching Regulator  Negative Supply. This pin is the negative supply rail for the  switching regulator controller and must be tied to POUT."

## LTC4267CGN-1#TRPBF
designator U?
Power Over Ethernet IEEE 802.3af PD Interface with Integrated Switching Regulator, 16-pin SOP (GN-16), 0 to 70 degC, Pb-Free, Tape and Reel; Manufacturer: Linear Technology; PartNumber: LTC4267CGN-1#TRPBF; Channels(#): 1; Extended Temp: C, I; I2C Interface: yes; Max Power(W): 13; DatasheetVersion: Rev. A; PackageVersion: Rev. B, 03/2012; PackageReference: GN-16; PackageDescription: 16-Pin Plastic SSOP, Body 4.9 x 3.9 mm, Pitch 0.635 mm; Supplier 1: Digi-Key; Supplier Part Number 1: LTC4267CGN-1#TRPBF-ND; Packing: Tape and Reel; PoE Type: 1; PSE/PD: PD; RoHS: TRUE; Mounting Technology: Surface Mount; ComponentLink1Description: Manufacturer URL; ComponentLink1URL: http://www.linear.com/; ComponentLink2Description: Datasheet; ComponentLink2URL: http://cds.linear.com/docs/en/datasheet/42671fa.pdf; ComponentLink3Description: Package Specification; ComponentLink3URL: http://cds.linear.com/docs/en/packaging/05081641_B_GN16.pdf
footprint LT-GN-16_N (SOP, 16-Leads, Body 5x4mm, Pitch 0.635mm, IPC Medium Density)
footprint LT-GN-16_L (SOP, 16-Leads, Body 5x4mm, Pitch 0.635mm, IPC High Density)
footprint LT-GN-16_M (SOP, 16-Leads, Body 5x4mm, Pitch 0.635mm, IPC Low Density)
pins: 1 PGND (power) "Switching Regulator  Negative Supply. This pin is the negative supply rail for the  switching regulator controller and must be tied to POUT.", 2 ITH/RUN (in) "Current Threshold/Run Input. This  pin performs two functions. It serves as the switching  regulator error amplifier compensation point as well as  the run/shutdown control input. Nominal voltage range is  0.7V to 1.9V. (See Datasheet)", 3 NGATE (out) "Gate Driver Output. This pin drives the  regulator’s external N-Channel MOSFET and swings from  PGND to PVCC.", 4 PVCC (power) "Switching Regulator Positive Supply. This  pin is the positive supply rail for the switching regulator  and must be closely decoupled to PGND.", 5 RCLASS (in) "Class Select Input. Used to set the current  value the PD maintains during classification. Connect a  resistor between RCLASS and VPORTN (see Table 2).", 6 NC "No Internal Connection.", 7 VPORTN (power) "Negative Power Input. Tie to the -48V input port through the input diodes.", 8 PGND (power) "Switching Regulator  Negative Supply. This pin is the negative supply rail for the  switching regulator controller and must be tied to POUT.", 9 PGND (power) "Switching Regulator  Negative Supply. This pin is the negative supply rail for the  switching regulator controller and must be tied to POUT.", 10 POUT (hiz) "Power Output. Supplies -48V to the switching regulator PGND pin and any additional PD loads through an internal power MOSFET that limits input current. POUT is high impedance until the voltage reaches the turn-on UVLO (See Datasheet)", 11 ~{PWRGD} (hiz) "Power Good Output, Open-Drain.  Indicates that the PD MOSFET is on and the switching  regulator can start operation. Low impedance indicates  power is good. P\W\R\G\D\ is high impedance during detection, classification and (See Datasheet)", 12 SIGDISA (in) "Signature Disable Input. SIGDISA allows the PD to present an invalid signature resistance and all functions of the LTC4267-3. If unused, tie SIGDISA to  VPORTN. remain inactive. Connecting SIGDISA to VPORTP lowers  the (See Datasheet)", 13 VPORTP (power) "Positive Power Input. Tie to the input  port power return through the input diodes", 14 SENSE (in) "Current Sense. This pin performs two  functions. It monitors the regulator switch current by reading the voltage across an external sense resistor. It also  injects a current ramp that develops a slope compensation  voltage (See Datasheet)", 15 VFB (in) "Feedback Input. Receives the feedback  voltage from the external resistor divider across the output", 16 PGND (power) "Switching Regulator  Negative Supply. This pin is the negative supply rail for the  switching regulator controller and must be tied to POUT."

## LTC4267CGN-3
designator U?
Power Over Ethernet IEEE 802.3af PD Interface with Integrated Switching Regulator, 16-pin SOP (GN-16), 0 to 70 degC; Manufacturer: Linear Technology; PartNumber: LTC4267CGN-3; Channels(#): 1; Extended Temp: C, I; I2C Interface: yes; Max Power(W): 13; DatasheetVersion: Rev. A; PackageVersion: Rev. B, 03/2012; PackageReference: GN-16; PackageDescription: 16-Pin Plastic SSOP, Body 4.9 x 3.9 mm, Pitch 0.635 mm; PoE Type: 1; PSE/PD: PD; RoHS: FALSE; Mounting Technology: Surface Mount; ComponentLink1Description: Manufacturer URL; ComponentLink1URL: http://www.linear.com/; ComponentLink2Description: Datasheet; ComponentLink2URL: http://cds.linear.com/docs/en/datasheet/42673fa.pdf; ComponentLink3Description: Package Specification; ComponentLink3URL: http://cds.linear.com/docs/en/packaging/05081641_B_GN16.pdf
footprint LT-GN-16_N (SOP, 16-Leads, Body 5x4mm, Pitch 0.635mm, IPC Medium Density)
footprint LT-GN-16_L (SOP, 16-Leads, Body 5x4mm, Pitch 0.635mm, IPC High Density)
footprint LT-GN-16_M (SOP, 16-Leads, Body 5x4mm, Pitch 0.635mm, IPC Low Density)
pins: 1 PGND (power) "Switching Regulator  Negative Supply. This pin is the negative supply rail for the  switching regulator controller and must be tied to POUT.", 2 ITH/RUN (in) "Current Threshold/Run Input. This  pin performs two functions. It serves as the switching  regulator error amplifier compensation point as well as  the run/shutdown control input. Nominal voltage range is  0.7V to 1.9V. (See Datasheet)", 3 NGATE (out) "Gate Driver Output. This pin drives the  regulator’s external N-Channel MOSFET and swings from  PGND to PVCC.", 4 PVCC (power) "Switching Regulator Positive Supply. This  pin is the positive supply rail for the switching regulator  and must be closely decoupled to PGND.", 5 RCLASS (in) "Class Select Input. Used to set the current  value the PD maintains during classification. Connect a  resistor between RCLASS and VPORTN (see Table 2).", 6 NC "No Internal Connection.", 7 VPORTN (power) "Negative Power Input. Tie to the -48V input port through the input diodes.", 8 PGND (power) "Switching Regulator  Negative Supply. This pin is the negative supply rail for the  switching regulator controller and must be tied to POUT.", 9 PGND (power) "Switching Regulator  Negative Supply. This pin is the negative supply rail for the  switching regulator controller and must be tied to POUT.", 10 POUT (hiz) "Power Output. Supplies -48V to the switching regulator PGND pin and any additional PD loads through an internal power MOSFET that limits input current. POUT is high impedance until the voltage reaches the turn-on UVLO (See Datasheet)", 11 ~{PWRGD} (hiz) "Power Good Output, Open-Drain.  Indicates that the PD MOSFET is on and the switching  regulator can start operation. Low impedance indicates  power is good. P\W\R\G\D\ is high impedance during detection, classification and (See Datasheet)", 12 SIGDISA (in) "Signature Disable Input. SIGDISA allows the PD to present an invalid signature resistance and all functions of the LTC4267-3. If unused, tie SIGDISA to  VPORTN. remain inactive. Connecting SIGDISA to VPORTP lowers  the (See Datasheet)", 13 VPORTP (power) "Positive Power Input. Tie to the input  port power return through the input diodes", 14 SENSE (in) "Current Sense. This pin performs two  functions. It monitors the regulator switch current by reading the voltage across an external sense resistor. It also  injects a current ramp that develops a slope compensation  voltage (See Datasheet)", 15 VFB (in) "Feedback Input. Receives the feedback  voltage from the external resistor divider across the output", 16 PGND (power) "Switching Regulator  Negative Supply. This pin is the negative supply rail for the  switching regulator controller and must be tied to POUT."

## LTC4267CGN-3#PBF
designator U?
Power Over Ethernet IEEE 802.3af PD Interface with Integrated Switching Regulator, 16-pin SOP (GN-16), 0 to 70 degC, Pb-Free; Manufacturer: Linear Technology; PartNumber: LTC4267CGN-3#PBF; Channels(#): 1; Extended Temp: C, I; I2C Interface: yes; Max Power(W): 13; DatasheetVersion: Rev. A; PackageVersion: Rev. B, 03/2012; PackageReference: GN-16; PackageDescription: 16-Pin Plastic SSOP, Body 4.9 x 3.9 mm, Pitch 0.635 mm; Supplier 1: Digi-Key; Supplier Part Number 1: LTC4267CGN-3#PBF-ND; Supplier 2: Farnell; Supplier Part Number 2: 1432773; Supplier 3: Newark; Supplier Part Number 3: 56M9198; PoE Type: 1; PSE/PD: PD; RoHS: TRUE; Mounting Technology: Surface Mount; ComponentLink1Description: Manufacturer URL; ComponentLink1URL: http://www.linear.com/; ComponentLink2Description: Datasheet; ComponentLink2URL: http://cds.linear.com/docs/en/datasheet/42673fa.pdf; ComponentLink3Description: Package Specification; ComponentLink3URL: http://cds.linear.com/docs/en/packaging/05081641_B_GN16.pdf
footprint LT-GN-16_N (SOP, 16-Leads, Body 5x4mm, Pitch 0.635mm, IPC Medium Density)
footprint LT-GN-16_L (SOP, 16-Leads, Body 5x4mm, Pitch 0.635mm, IPC High Density)
footprint LT-GN-16_M (SOP, 16-Leads, Body 5x4mm, Pitch 0.635mm, IPC Low Density)
pins: 1 PGND (power) "Switching Regulator  Negative Supply. This pin is the negative supply rail for the  switching regulator controller and must be tied to POUT.", 2 ITH/RUN (in) "Current Threshold/Run Input. This  pin performs two functions. It serves as the switching  regulator error amplifier compensation point as well as  the run/shutdown control input. Nominal voltage range is  0.7V to 1.9V. (See Datasheet)", 3 NGATE (out) "Gate Driver Output. This pin drives the  regulator’s external N-Channel MOSFET and swings from  PGND to PVCC.", 4 PVCC (power) "Switching Regulator Positive Supply. This  pin is the positive supply rail for the switching regulator  and must be closely decoupled to PGND.", 5 RCLASS (in) "Class Select Input. Used to set the current  value the PD maintains during classification. Connect a  resistor between RCLASS and VPORTN (see Table 2).", 6 NC "No Internal Connection.", 7 VPORTN (power) "Negative Power Input. Tie to the -48V input port through the input diodes.", 8 PGND (power) "Switching Regulator  Negative Supply. This pin is the negative supply rail for the  switching regulator controller and must be tied to POUT.", 9 PGND (power) "Switching Regulator  Negative Supply. This pin is the negative supply rail for the  switching regulator controller and must be tied to POUT.", 10 POUT (hiz) "Power Output. Supplies -48V to the switching regulator PGND pin and any additional PD loads through an internal power MOSFET that limits input current. POUT is high impedance until the voltage reaches the turn-on UVLO (See Datasheet)", 11 ~{PWRGD} (hiz) "Power Good Output, Open-Drain.  Indicates that the PD MOSFET is on and the switching  regulator can start operation. Low impedance indicates  power is good. P\W\R\G\D\ is high impedance during detection, classification and (See Datasheet)", 12 SIGDISA (in) "Signature Disable Input. SIGDISA allows the PD to present an invalid signature resistance and all functions of the LTC4267-3. If unused, tie SIGDISA to  VPORTN. remain inactive. Connecting SIGDISA to VPORTP lowers  the (See Datasheet)", 13 VPORTP (power) "Positive Power Input. Tie to the input  port power return through the input diodes", 14 SENSE (in) "Current Sense. This pin performs two  functions. It monitors the regulator switch current by reading the voltage across an external sense resistor. It also  injects a current ramp that develops a slope compensation  voltage (See Datasheet)", 15 VFB (in) "Feedback Input. Receives the feedback  voltage from the external resistor divider across the output", 16 PGND (power) "Switching Regulator  Negative Supply. This pin is the negative supply rail for the  switching regulator controller and must be tied to POUT."

## LTC4267CGN-3#TR
designator U?
Power Over Ethernet IEEE 802.3af PD Interface with Integrated Switching Regulator, 16-pin SOP (GN-16), 0 to 70 degC, Tape and Reel; Manufacturer: Linear Technology; PartNumber: LTC4267CGN-3#TR; Channels(#): 1; Extended Temp: C, I; I2C Interface: yes; Max Power(W): 13; DatasheetVersion: Rev. A; PackageVersion: Rev. B, 03/2012; PackageReference: GN-16; PackageDescription: 16-Pin Plastic SSOP, Body 4.9 x 3.9 mm, Pitch 0.635 mm; Packing: Tape and Reel; PoE Type: 1; PSE/PD: PD; RoHS: FALSE; Mounting Technology: Surface Mount; ComponentLink1Description: Manufacturer URL; ComponentLink1URL: http://www.linear.com/; ComponentLink2Description: Datasheet; ComponentLink2URL: http://cds.linear.com/docs/en/datasheet/42673fa.pdf; ComponentLink3Description: Package Specification; ComponentLink3URL: http://cds.linear.com/docs/en/packaging/05081641_B_GN16.pdf
footprint LT-GN-16_N (SOP, 16-Leads, Body 5x4mm, Pitch 0.635mm, IPC Medium Density)
footprint LT-GN-16_L (SOP, 16-Leads, Body 5x4mm, Pitch 0.635mm, IPC High Density)
footprint LT-GN-16_M (SOP, 16-Leads, Body 5x4mm, Pitch 0.635mm, IPC Low Density)
pins: 1 PGND (power) "Switching Regulator  Negative Supply. This pin is the negative supply rail for the  switching regulator controller and must be tied to POUT.", 2 ITH/RUN (in) "Current Threshold/Run Input. This  pin performs two functions. It serves as the switching  regulator error amplifier compensation point as well as  the run/shutdown control input. Nominal voltage range is  0.7V to 1.9V. (See Datasheet)", 3 NGATE (out) "Gate Driver Output. This pin drives the  regulator’s external N-Channel MOSFET and swings from  PGND to PVCC.", 4 PVCC (power) "Switching Regulator Positive Supply. This  pin is the positive supply rail for the switching regulator  and must be closely decoupled to PGND.", 5 RCLASS (in) "Class Select Input. Used to set the current  value the PD maintains during classification. Connect a  resistor between RCLASS and VPORTN (see Table 2).", 6 NC "No Internal Connection.", 7 VPORTN (power) "Negative Power Input. Tie to the -48V input port through the input diodes.", 8 PGND (power) "Switching Regulator  Negative Supply. This pin is the negative supply rail for the  switching regulator controller and must be tied to POUT.", 9 PGND (power) "Switching Regulator  Negative Supply. This pin is the negative supply rail for the  switching regulator controller and must be tied to POUT.", 10 POUT (hiz) "Power Output. Supplies -48V to the switching regulator PGND pin and any additional PD loads through an internal power MOSFET that limits input current. POUT is high impedance until the voltage reaches the turn-on UVLO (See Datasheet)", 11 ~{PWRGD} (hiz) "Power Good Output, Open-Drain.  Indicates that the PD MOSFET is on and the switching  regulator can start operation. Low impedance indicates  power is good. P\W\R\G\D\ is high impedance during detection, classification and (See Datasheet)", 12 SIGDISA (in) "Signature Disable Input. SIGDISA allows the PD to present an invalid signature resistance and all functions of the LTC4267-3. If unused, tie SIGDISA to  VPORTN. remain inactive. Connecting SIGDISA to VPORTP lowers  the (See Datasheet)", 13 VPORTP (power) "Positive Power Input. Tie to the input  port power return through the input diodes", 14 SENSE (in) "Current Sense. This pin performs two  functions. It monitors the regulator switch current by reading the voltage across an external sense resistor. It also  injects a current ramp that develops a slope compensation  voltage (See Datasheet)", 15 VFB (in) "Feedback Input. Receives the feedback  voltage from the external resistor divider across the output", 16 PGND (power) "Switching Regulator  Negative Supply. This pin is the negative supply rail for the  switching regulator controller and must be tied to POUT."